# Altium schematic symbol library XAL7030-272MEB.SchLib: 2 symbols
Pins are listed as number, name and electrical type; pins without a type are passive.

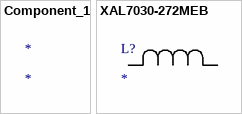
[diagram p0: symbols Component_1 to XAL7030-272MEB]

## Component_1
designator *

## XAL7030-272MEB
designator L?
No Description Available; Mfr_Name: Coilcraft
footprint IND_XAL7030_1.6_COC
pins: 1, 2